# EAGLE library part SI4730-D60-GMR (library SamacSys_Parts)
RF Receiver AM/FM/LW/SW 3.3V/5V Automotive 20-Pin QFN EP T/R Source: Datasheet <https://www.arrow.com/en/products/si4730-d60-gmr/silicon-labs>
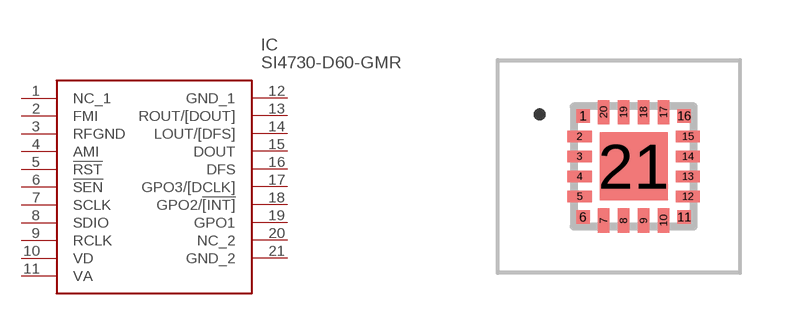
[diagram p3: symbol with the pads of SI4707B20GMR; footprint SI4707B20GMR]

Designator prefix IC

## SI4730-D60-GMR (ARROW_PART_NUMBER: SI4730-D60-GMR; ARROW_PRICE-STOCK: https://www.arrow.com/en/products/si4730-d60-gmr/silicon-labs; DESCRIPTION: RF Receiver AM/FM/LW/SW 3.3V/5V Automotive 20-Pin QFN EP T/R; HEIGHT: 0.6mm; MANUFACTURER_NAME: Silicon Labs; MANUFACTURER_PART_NUMBER: SI4730-D60-GMR; MOUSER_PART_NUMBER: N/A; MOUSER_PRICE-STOCK: https://www.mouser.co.uk/ProductDetail/Silicon-Labs/SI4730-D60-GMR?qs=C%2F0tY%2F%2FqZe9CWAZLoJftDg%3D%3D)  [SI4707B20GMR]
1  NC_1
2  FMI
3  RFGND
4  AMI
5  !RST
6  !SEN
7  SCLK
8  SDIO
9  RCLK
10  VD
11  VA
12  GND_1
13  ROUT/[DOUT]
14  LOUT/[DFS]
15  DOUT
16  DFS
17  GPO3/[DCLK]
18  GPO2/![INT]
19  GPO1
20  NC_2
21  GND_2

## Footprint SI4707B20GMR (pad centres in mm)
QFN_3X3- 2.71*2.53
smd 0.34 x 0.34: 1 -1.265,1.265; 6 -1.265,-1.265; 11 1.265,-1.265; 16 1.265,1.265
smd 0.61 x 0.28: 2 -1.355,0.75; 3 -1.355,0.25; 4 -1.355,-0.25; 5 -1.355,-0.75; 12 1.355,-0.75; 13 1.355,-0.25; 14 1.355,0.25; 15 1.355,0.75
smd 0.28 x 0.61: 7 -0.75,-1.355; 8 -0.25,-1.355; 9 0.25,-1.355; 10 0.75,-1.355; 17 0.75,1.355; 18 0.25,1.355; 19 -0.25,1.355; 20 -0.75,1.355
smd 1.7 x 1.7: 21 0,0